# Altium integrated library Linear Technology Power Management Hot Swap Controllers.IntLib: 992 symbols (part 58 of 93)
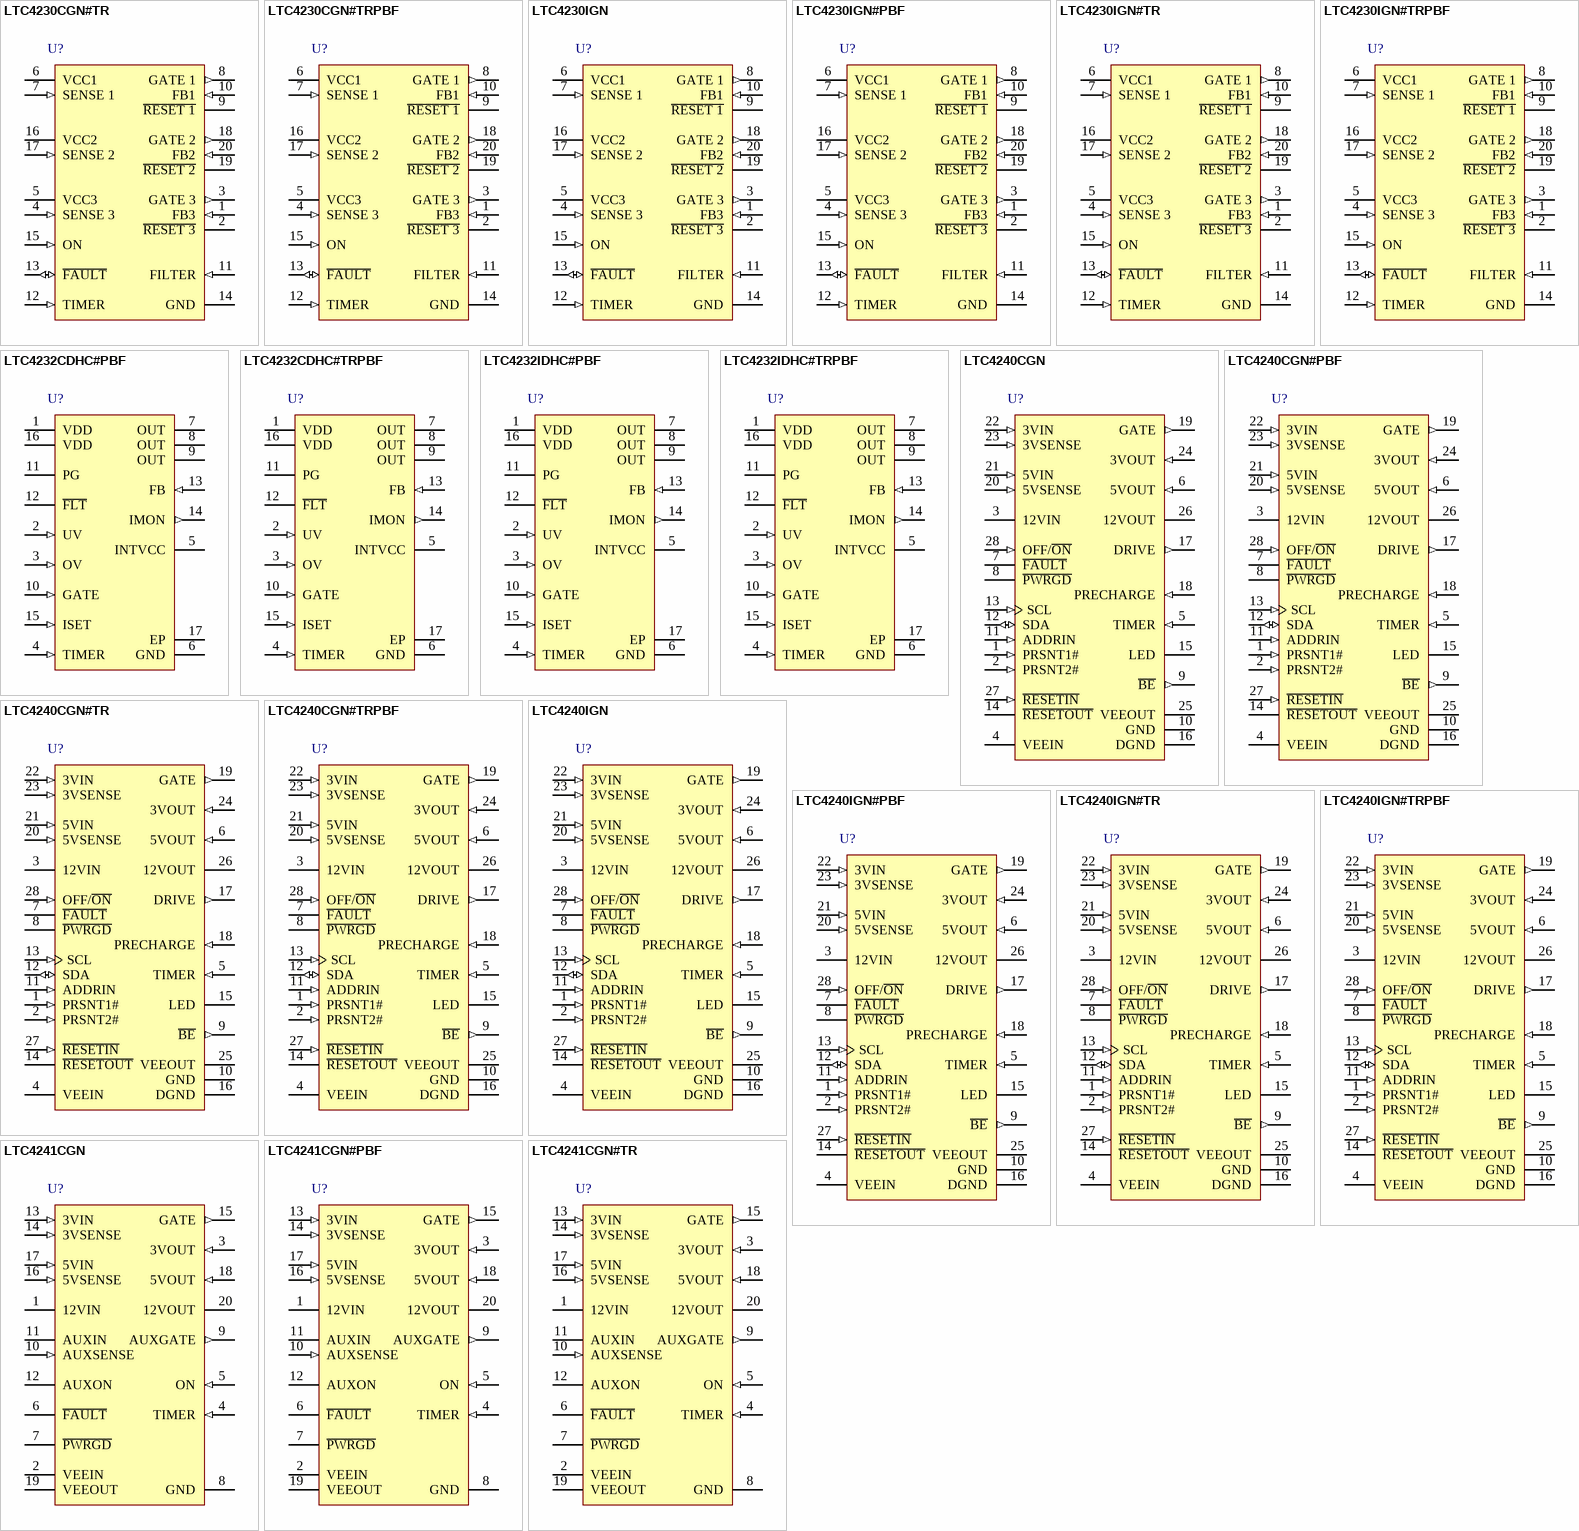
[diagram p94: symbols LTC4230CGN#TR to LTC4241CGN#TR]

## LTC4230IGN#TRPBF
designator U?
Triple Hot Swap Controller with Multifunction Current Control, (1) 2.7 to 16.5 V, (2) 2.375 to 16.5 V, (3) 1.7 to 15.5 V Vin, 20-pin SOP (GN-20), -40 to 85 degC, Pb-Free, Tape and Reel; Manufacturer: Linear Technology; PartNumber: LTC4230IGN#TRPBF; Active Limiting: no; Circuit Breaker Accuracy(%): 20; Circuit Breaker Threshold: 50 mV; Circuit Breakers(#): 3; Extended Temp: C, I; Fast Comparator: yes; In-Rush Current: Active; PackageVersion: Rev. B, 03/2012; PackageReference: GN-20; PackageDescription: 20-Pin Plastic SSOP, Body 8.649 x 3.899 mm, Pitch 0.635 mm; Supplier 1: Digi-Key; Supplier Part Number 1: LTC4230IGN#TRPBF-ND; Fault: yes; Foldback: no; Packing: Tape and Reel; Power Good: no; Reset: yes; RoHS: TRUE; Vin Range: (1) 2.7 to 16.5 V, (2) 2.375 to 16.5 V, (3) 1.7 to 15.5 V; Mounting Technology: Surface Mount; ComponentLink1Description: Manufacturer URL; ComponentLink1URL: http://www.linear.com/; ComponentLink2Description: Datasheet; ComponentLink2URL: http://cds.linear.com/docs/en/datasheet/4230f.pdf; ComponentLink3Description: Package Specification; ComponentLink3URL: http://cds.linear.com/docs/en/packaging/05081641_B_GN20.pdf
footprint LT-GN-20_N (SOP, 20-Leads, Body 8.7x4mm, Pitch 0.635mm, IPC Medium Density)
footprint LT-GN-20_L (SOP, 20-Leads, Body 8.7x4mm, Pitch 0.635mm, IPC High Density)
footprint LT-GN-20_M (SOP, 20-Leads, Body 8.7x4mm, Pitch 0.635mm, IPC Low Density)
pins: 1 FB3 (in) "The FB3 (Feedback) pin is an input to the FBCOMP3 comparator which monitors the VCC3 output supply voltage through an external resistor divider.", 2 ~{RESET 3} (oc) "An open-drain N-channel device whose source connects to GND (Pin 14). This pin pulls low if the voltage at FB3 (Pin 1) falls below the FB3 threshold (1.234V).", 3 GATE 3 (out) "The output signal at this pin is the high side gate drive for Channel 3’s external N-channel MOSFET pass transistor.", 4 SENSE 3 (in) "Circuit Breaker Sense Pin for Channel 3. With a sense resistor placed in the power path between VCC3 and SENSE 3,", 5 VCC3 (power) "Positive Supply Input for Channel 3. VCC3 operates from 1.7V to 15.5V (VCC3 £ VCC1 - 1V) and its supply current, ICC3, is typically 65mA. The master UVLO circuit disables all three GATEn outputs of the LTC4230 until the(See Datasheet)", 6 VCC1 (power) "This is the positive supply input to the LTC4230, the power supply input for Channel 1, and the power supply input for all three internal charge pumps.", 7 SENSE 1 (in) "Circuit Breaker Sense Pin for Channel 1. With a sense resistor placed in the power path between VCC1 and SENSE 1, Channel 1’s electronic circuit breaker trips if the voltage across the sense resistor (VCC1 - VSENSE1(See Datasheet)", 8 GATE 1 (out) "The output signal at this pin is the high side gate drive for Channel 1’s external N-channel FET pass transistor.", 9 ~{RESET 1} (hiz) "An open-drain N-channel device whose source connects to GND (Pin 14).", 10 FB1 (in) "The FB1 (Feedback) pin is an input to the FBCOMP1 comparator which monitors the VCC1 output supply voltage through an external resistor divider.", 11 FILTER (in) "Overcurrent Fault Timing Pin and Overvoltage Fault Set Pin. With a capacitor connected from this pin to ground,", 12 TIMER (in) "A capacitor connected from this pin to GND sets the LTC4230’s system timing. The LTC4230’s initial and second start-up timing cycles and its discharge mode delay time are controlled by this capacitor.", 13 ~{FAULT} (io) "F\A\U\L\T\ is a dual function (an input and an output) internal to the LTC4230. Connected to this pin are an analog comparator (COMP6) and an open-drain N-channel FET.", 14 GND (power) "Device Ground Connection. Connect this pin to the system’s analog ground plane.", 15 ON (in) "An active high signal used to enable or disable LTC4230 operation. As shown in the LTC4230 Block  Diagram, COMP1’s threshold is set at 1.234V and its hysteresis is set at 80mV.", 16 VCC2 (power) "Positive Supply Input for Channel 2. VCC2 operates from 2.375V to 16.5V and its supply current, ICC2, is typically 75mA.", 17 SENSE 2 (in) "Circuit Breaker Sense Pin for Channel 2. With a sense resistor placed in the power path between VCC2 and SENSE 2,", 18 GATE 2 (out) "The output signal at this pin is the high side gate drive for Channel 2’s external N-channel FET pass transistor.", 19 ~{RESET 2} (oc) "An open-drain N-channel device whose source connects to GND (Pin 14). This pin pulls low if the voltage at FB2 (Pin 20) falls below the FB2 threshold (1.234V).", 20 FB2 (in) "The FB2 (Feedback) pin is an input to the FBCOMP2 comparator which monitors the VCC2 output supply voltage through an external resistor divider."

## LTC4232CDHC#PBF
designator U?
5 A Integrated Hot Swap Controller, 2.9 to 15 V Vin, 16-pin SON (DHC-16), 0 to 70 degC, Pb-Free; Manufacturer: Linear Technology; PartNumber: LTC4232CDHC#PBF; Active Limiting: yes; Circuit Breaker Accuracy(%): 10; Circuit Breakers(#): 1; Extended Temp: C, I; In-Rush Current: Ramp; DatasheetVersion: Rev. A; PackageVersion: Jun-10; PackageReference: DHC-16; PackageDescription: 16-Pin Plastic DFN, Body 5 x 3 mm, Pitch 0.5 mm; Supplier 1: Digi-Key; Supplier Part Number 1: LTC4232CDHC#PBF-ND; Supplier 2: Farnell; Supplier Part Number 2: 2322425; Supplier 3: Newark; Supplier Part Number 3: 78T3320; Fault: yes; Foldback: yes; Power Good: yes; RoHS: TRUE; Vin Range: 2.9 to 15 V; Mounting Technology: Surface Mount; Code_JEDEC: MO-229; ComponentLink1Description: Manufacturer URL; ComponentLink1URL: http://www.linear.com/; ComponentLink2Description: Datasheet; ComponentLink2URL: http://cds.linear.com/docs/en/datasheet/4232fa.pdf; ComponentLink3Description: Package Specification; ComponentLink3URL: http://cds.linear.com/docs/en/packaging/DFN_16_05-08-1706.pdf
footprint LT-DHC-16_V (SON, 16-Leads, Body 5x3mm, Pitch 0.5mm, Thermal Pad 4.4X1.65mm)
pins: 1 VDD (power) "Supply Voltage and Current Sense Input. This pin  has an undervoltage lockout threshold of 2.73V.", 2 UV (in) "Undervoltage Comparator Input. Tie high if unused.  Connect this pin to an external resistive divider from VDD.  If the UV pin voltage falls below 1.15V, an undervoltage is  detected and the switch turns off. Pulling this (See Datasheet)", 3 OV (in) "Overvoltage Comparator Input. Connect this pin to an  external resistive divider from VDD. If the voltage at this  pin rises above 1.235V, an overvoltage is detected and  the switch turns off. Tie to GND if unused.", 4 TIMER (in) "Timer Input. Connect a capacitor between this pin  and ground to set a 12ms/uF duration for current limit  before the switch is turned off. If the UV pin is toggled  low while the MOSFET switch is off, the switch will turn  (See Datasheet)", 5 INTVCC (power) "Internal 3.1V Supply Decoupling Output. This pin  must have a 0.1uF or larger bypass capacitor.", 6 GND (power) "Device Ground.", 7 OUT (power) "Output of Internal MOSFET Switch. Connect this pin  directly to the load.", 8 OUT (power) "Output of Internal MOSFET Switch. Connect this pin  directly to the load.", 9 OUT (power) "Output of Internal MOSFET Switch. Connect this pin  directly to the load.", 10 GATE (in) "Gate Drive for Internal N-channel MOSFET. An  internal 24uA current source charges the gate of the  N-channel MOSFET. At start-up the GATE pin ramps up at  a 0.3V/ms rate determined by internal circuitry. During an  (See Datasheet)", 11 PG (oc) "Power Good Indicator. Open-drain output pulls low  when the FB pin drops below 1.21V indicating the power is  bad. If the FB pin rises above 1.23V and the GATE to OUT  voltage exceeds 4.2V, the open-drain pull-down releases  (See Datasheet)", 12 ~{FLT} (oc) "Overcurrent Fault Indicator. Open-drain output pulls  low when an overcurrent fault has occurred and the circuit  breaker trips. For overcurrent auto-retry tie to UV pin (see  the Applications Information section for (See Datasheet)", 13 FB (in) "Foldback and Power Good Input. Connect this pin to  an external resistive divider from OUT. If the voltage falls  below 0.6V, the current limit is reduced using a foldback  profile (see the Typical Performance (See Datasheet)", 14 IMON (out) "Current Monitor Output. The current in the internal  MOSFET switch is divided by 50,000 and sourced from this pin. Placing a 20k resistor from this pin to GND creates a  0V to 2V voltage swing when current ranges from 0A to (See Datasheet)", 15 ISET (in) "Current Limit Adjustment Pin. For a 5.6A current limit  value open this pin. This pin is driven by a 20k resistor in  series with a voltage source. The pin voltage is used to  generatethecurrentlimitthreshold. Theinternal (See Datasheet)", 16 VDD (power) "Supply Voltage and Current Sense Input. This pin  has an undervoltage lockout threshold of 2.73V.", 17 EP "Current Sense Node and MOSFET Drain. The current limit circuit controls the GATE pin to limit the sense  voltage between the VDD and SENSE pins to 42mV (5.6A)  or less depending on the voltage at the FB pin. The exposed  pad (See Datasheet)"

## LTC4232CDHC#TRPBF
designator U?
5 A Integrated Hot Swap Controller, 2.9 to 15 V Vin, 16-pin SON (DHC-16), 0 to 70 degC, Pb-Free, Tape and Reel; Manufacturer: Linear Technology; PartNumber: LTC4232CDHC#TRPBF; Active Limiting: yes; Circuit Breaker Accuracy(%): 10; Circuit Breakers(#): 1; Extended Temp: C, I; In-Rush Current: Ramp; DatasheetVersion: Rev. A; PackageVersion: Jun-10; PackageReference: DHC-16; PackageDescription: 16-Pin Plastic DFN, Body 5 x 3 mm, Pitch 0.5 mm; Supplier 1: Digi-Key; Supplier Part Number 1: LTC4232CDHC#TRPBF-ND; Supplier 2: Newark; Supplier Part Number 2: 78T3321; Fault: yes; Foldback: yes; Packing: Tape and Reel; Power Good: yes; RoHS: TRUE; Vin Range: 2.9 to 15 V; Mounting Technology: Surface Mount; Code_JEDEC: MO-229; ComponentLink1Description: Manufacturer URL; ComponentLink1URL: http://www.linear.com/; ComponentLink2Description: Datasheet; ComponentLink2URL: http://cds.linear.com/docs/en/datasheet/4232fa.pdf; ComponentLink3Description: Package Specification; ComponentLink3URL: http://cds.linear.com/docs/en/packaging/DFN_16_05-08-1706.pdf
footprint LT-DHC-16_V (SON, 16-Leads, Body 5x3mm, Pitch 0.5mm, Thermal Pad 4.4X1.65mm)
pins: 1 VDD (power) "Supply Voltage and Current Sense Input. This pin  has an undervoltage lockout threshold of 2.73V.", 2 UV (in) "Undervoltage Comparator Input. Tie high if unused.  Connect this pin to an external resistive divider from VDD.  If the UV pin voltage falls below 1.15V, an undervoltage is  detected and the switch turns off. Pulling this (See Datasheet)", 3 OV (in) "Overvoltage Comparator Input. Connect this pin to an  external resistive divider from VDD. If the voltage at this  pin rises above 1.235V, an overvoltage is detected and  the switch turns off. Tie to GND if unused.", 4 TIMER (in) "Timer Input. Connect a capacitor between this pin  and ground to set a 12ms/uF duration for current limit  before the switch is turned off. If the UV pin is toggled  low while the MOSFET switch is off, the switch will turn  (See Datasheet)", 5 INTVCC (power) "Internal 3.1V Supply Decoupling Output. This pin  must have a 0.1uF or larger bypass capacitor.", 6 GND (power) "Device Ground.", 7 OUT (power) "Output of Internal MOSFET Switch. Connect this pin  directly to the load.", 8 OUT (power) "Output of Internal MOSFET Switch. Connect this pin  directly to the load.", 9 OUT (power) "Output of Internal MOSFET Switch. Connect this pin  directly to the load.", 10 GATE (in) "Gate Drive for Internal N-channel MOSFET. An  internal 24uA current source charges the gate of the  N-channel MOSFET. At start-up the GATE pin ramps up at  a 0.3V/ms rate determined by internal circuitry. During an  (See Datasheet)", 11 PG (oc) "Power Good Indicator. Open-drain output pulls low  when the FB pin drops below 1.21V indicating the power is  bad. If the FB pin rises above 1.23V and the GATE to OUT  voltage exceeds 4.2V, the open-drain pull-down releases  (See Datasheet)", 12 ~{FLT} (oc) "Overcurrent Fault Indicator. Open-drain output pulls  low when an overcurrent fault has occurred and the circuit  breaker trips. For overcurrent auto-retry tie to UV pin (see  the Applications Information section for (See Datasheet)", 13 FB (in) "Foldback and Power Good Input. Connect this pin to  an external resistive divider from OUT. If the voltage falls  below 0.6V, the current limit is reduced using a foldback  profile (see the Typical Performance (See Datasheet)", 14 IMON (out) "Current Monitor Output. The current in the internal  MOSFET switch is divided by 50,000 and sourced from this pin. Placing a 20k resistor from this pin to GND creates a  0V to 2V voltage swing when current ranges from 0A to (See Datasheet)", 15 ISET (in) "Current Limit Adjustment Pin. For a 5.6A current limit  value open this pin. This pin is driven by a 20k resistor in  series with a voltage source. The pin voltage is used to  generatethecurrentlimitthreshold. Theinternal (See Datasheet)", 16 VDD (power) "Supply Voltage and Current Sense Input. This pin  has an undervoltage lockout threshold of 2.73V.", 17 EP "Current Sense Node and MOSFET Drain. The current limit circuit controls the GATE pin to limit the sense  voltage between the VDD and SENSE pins to 42mV (5.6A)  or less depending on the voltage at the FB pin. The exposed  pad (See Datasheet)"

## LTC4232IDHC#PBF
designator U?
5 A Integrated Hot Swap Controller, 2.9 to 15 V Vin, 16-pin SON (DHC-16), -40 to 85 degC, Pb-Free; Manufacturer: Linear Technology; PartNumber: LTC4232IDHC#PBF; Active Limiting: yes; Circuit Breaker Accuracy(%): 10; Circuit Breakers(#): 1; Extended Temp: C, I; In-Rush Current: Ramp; DatasheetVersion: Rev. A; PackageVersion: Jun-10; PackageReference: DHC-16; PackageDescription: 16-Pin Plastic DFN, Body 5 x 3 mm, Pitch 0.5 mm; Supplier 1: Digi-Key; Supplier Part Number 1: LTC4232IDHC#PBF-ND; Supplier 2: Farnell; Supplier Part Number 2: 2322426; Supplier 3: Newark; Supplier Part Number 3: 78T3322; Fault: yes; Foldback: yes; Power Good: yes; RoHS: TRUE; Vin Range: 2.9 to 15 V; Mounting Technology: Surface Mount; Code_JEDEC: MO-229; ComponentLink1Description: Manufacturer URL; ComponentLink1URL: http://www.linear.com/; ComponentLink2Description: Datasheet; ComponentLink2URL: http://cds.linear.com/docs/en/datasheet/4232fa.pdf; ComponentLink3Description: Package Specification; ComponentLink3URL: http://cds.linear.com/docs/en/packaging/DFN_16_05-08-1706.pdf
footprint LT-DHC-16_V (SON, 16-Leads, Body 5x3mm, Pitch 0.5mm, Thermal Pad 4.4X1.65mm)
pins: 1 VDD (power) "Supply Voltage and Current Sense Input. This pin  has an undervoltage lockout threshold of 2.73V.", 2 UV (in) "Undervoltage Comparator Input. Tie high if unused.  Connect this pin to an external resistive divider from VDD.  If the UV pin voltage falls below 1.15V, an undervoltage is  detected and the switch turns off. Pulling this (See Datasheet)", 3 OV (in) "Overvoltage Comparator Input. Connect this pin to an  external resistive divider from VDD. If the voltage at this  pin rises above 1.235V, an overvoltage is detected and  the switch turns off. Tie to GND if unused.", 4 TIMER (in) "Timer Input. Connect a capacitor between this pin  and ground to set a 12ms/uF duration for current limit  before the switch is turned off. If the UV pin is toggled  low while the MOSFET switch is off, the switch will turn  (See Datasheet)", 5 INTVCC (power) "Internal 3.1V Supply Decoupling Output. This pin  must have a 0.1uF or larger bypass capacitor.", 6 GND (power) "Device Ground.", 7 OUT (power) "Output of Internal MOSFET Switch. Connect this pin  directly to the load.", 8 OUT (power) "Output of Internal MOSFET Switch. Connect this pin  directly to the load.", 9 OUT (power) "Output of Internal MOSFET Switch. Connect this pin  directly to the load.", 10 GATE (in) "Gate Drive for Internal N-channel MOSFET. An  internal 24uA current source charges the gate of the  N-channel MOSFET. At start-up the GATE pin ramps up at  a 0.3V/ms rate determined by internal circuitry. During an  (See Datasheet)", 11 PG (oc) "Power Good Indicator. Open-drain output pulls low  when the FB pin drops below 1.21V indicating the power is  bad. If the FB pin rises above 1.23V and the GATE to OUT  voltage exceeds 4.2V, the open-drain pull-down releases  (See Datasheet)", 12 ~{FLT} (oc) "Overcurrent Fault Indicator. Open-drain output pulls  low when an overcurrent fault has occurred and the circuit  breaker trips. For overcurrent auto-retry tie to UV pin (see  the Applications Information section for (See Datasheet)", 13 FB (in) "Foldback and Power Good Input. Connect this pin to  an external resistive divider from OUT. If the voltage falls  below 0.6V, the current limit is reduced using a foldback  profile (see the Typical Performance (See Datasheet)", 14 IMON (out) "Current Monitor Output. The current in the internal  MOSFET switch is divided by 50,000 and sourced from this pin. Placing a 20k resistor from this pin to GND creates a  0V to 2V voltage swing when current ranges from 0A to (See Datasheet)", 15 ISET (in) "Current Limit Adjustment Pin. For a 5.6A current limit  value open this pin. This pin is driven by a 20k resistor in  series with a voltage source. The pin voltage is used to  generatethecurrentlimitthreshold. Theinternal (See Datasheet)", 16 VDD (power) "Supply Voltage and Current Sense Input. This pin  has an undervoltage lockout threshold of 2.73V.", 17 EP "Current Sense Node and MOSFET Drain. The current limit circuit controls the GATE pin to limit the sense  voltage between the VDD and SENSE pins to 42mV (5.6A)  or less depending on the voltage at the FB pin. The exposed  pad (See Datasheet)"

## LTC4232IDHC#TRPBF
designator U?
5 A Integrated Hot Swap Controller, 2.9 to 15 V Vin, 16-pin SON (DHC-16), -40 to 85 degC, Pb-Free, Tape and Reel; Manufacturer: Linear Technology; PartNumber: LTC4232IDHC#TRPBF; Active Limiting: yes; Circuit Breaker Accuracy(%): 10; Circuit Breakers(#): 1; Extended Temp: C, I; In-Rush Current: Ramp; DatasheetVersion: Rev. A; PackageVersion: Jun-10; PackageReference: DHC-16; PackageDescription: 16-Pin Plastic DFN, Body 5 x 3 mm, Pitch 0.5 mm; Supplier 1: Digi-Key; Supplier Part Number 1: LTC4232IDHC#TRPBF-ND; Supplier 2: Newark; Supplier Part Number 2: 78T3323; Fault: yes; Foldback: yes; Packing: Tape and Reel; Power Good: yes; RoHS: TRUE; Vin Range: 2.9 to 15 V; Mounting Technology: Surface Mount; Code_JEDEC: MO-229; ComponentLink1Description: Manufacturer URL; ComponentLink1URL: http://www.linear.com/; ComponentLink2Description: Datasheet; ComponentLink2URL: http://cds.linear.com/docs/en/datasheet/4232fa.pdf; ComponentLink3Description: Package Specification; ComponentLink3URL: http://cds.linear.com/docs/en/packaging/DFN_16_05-08-1706.pdf
footprint LT-DHC-16_V (SON, 16-Leads, Body 5x3mm, Pitch 0.5mm, Thermal Pad 4.4X1.65mm)
pins: 1 VDD (power) "Supply Voltage and Current Sense Input. This pin  has an undervoltage lockout threshold of 2.73V.", 2 UV (in) "Undervoltage Comparator Input. Tie high if unused.  Connect this pin to an external resistive divider from VDD.  If the UV pin voltage falls below 1.15V, an undervoltage is  detected and the switch turns off. Pulling this (See Datasheet)", 3 OV (in) "Overvoltage Comparator Input. Connect this pin to an  external resistive divider from VDD. If the voltage at this  pin rises above 1.235V, an overvoltage is detected and  the switch turns off. Tie to GND if unused.", 4 TIMER (in) "Timer Input. Connect a capacitor between this pin  and ground to set a 12ms/uF duration for current limit  before the switch is turned off. If the UV pin is toggled  low while the MOSFET switch is off, the switch will turn  (See Datasheet)", 5 INTVCC (power) "Internal 3.1V Supply Decoupling Output. This pin  must have a 0.1uF or larger bypass capacitor.", 6 GND (power) "Device Ground.", 7 OUT (power) "Output of Internal MOSFET Switch. Connect this pin  directly to the load.", 8 OUT (power) "Output of Internal MOSFET Switch. Connect this pin  directly to the load.", 9 OUT (power) "Output of Internal MOSFET Switch. Connect this pin  directly to the load.", 10 GATE (in) "Gate Drive for Internal N-channel MOSFET. An  internal 24uA current source charges the gate of the  N-channel MOSFET. At start-up the GATE pin ramps up at  a 0.3V/ms rate determined by internal circuitry. During an  (See Datasheet)", 11 PG (oc) "Power Good Indicator. Open-drain output pulls low  when the FB pin drops below 1.21V indicating the power is  bad. If the FB pin rises above 1.23V and the GATE to OUT  voltage exceeds 4.2V, the open-drain pull-down releases  (See Datasheet)", 12 ~{FLT} (oc) "Overcurrent Fault Indicator. Open-drain output pulls  low when an overcurrent fault has occurred and the circuit  breaker trips. For overcurrent auto-retry tie to UV pin (see  the Applications Information section for (See Datasheet)", 13 FB (in) "Foldback and Power Good Input. Connect this pin to  an external resistive divider from OUT. If the voltage falls  below 0.6V, the current limit is reduced using a foldback  profile (see the Typical Performance (See Datasheet)", 14 IMON (out) "Current Monitor Output. The current in the internal  MOSFET switch is divided by 50,000 and sourced from this pin. Placing a 20k resistor from this pin to GND creates a  0V to 2V voltage swing when current ranges from 0A to (See Datasheet)", 15 ISET (in) "Current Limit Adjustment Pin. For a 5.6A current limit  value open this pin. This pin is driven by a 20k resistor in  series with a voltage source. The pin voltage is used to  generatethecurrentlimitthreshold. Theinternal (See Datasheet)", 16 VDD (power) "Supply Voltage and Current Sense Input. This pin  has an undervoltage lockout threshold of 2.73V.", 17 EP "Current Sense Node and MOSFET Drain. The current limit circuit controls the GATE pin to limit the sense  voltage between the VDD and SENSE pins to 42mV (5.6A)  or less depending on the voltage at the FB pin. The exposed  pad (See Datasheet)"

## LTC4240CGN
designator U?
Compact PCI Hot Swap Controller with I2C Compatible Interface, 3.3 V, 5 V, +/-12 V Vin, 28-pin SOP (GN-28), 0 to 70 degC; Manufacturer: Linear Technology; PartNumber: LTC4240CGN; Active Limiting: yes; Circuit Breaker Accuracy(%): 9; Circuit Breaker Threshold: 55 mV; Circuit Breakers(#): 4; Extended Temp: C, I; Fast Comparator: no; In-Rush Current: Active; PackageVersion: Rev. B, 03/2012; PackageReference: GN-28; PackageDescription: 28-Pin Plastic SSOP, Body 9.9 x 3.9 mm, Pitch 0.635 mm; Supplier 1: Digi-Key; Supplier Part Number 1: LTC4240CGN-ND; Fault: yes; Foldback: yes; Power Good: yes; Reset: no; RoHS: FALSE; Vin Range: 3.3 V, 5 V, +/-12 V; Mounting Technology: Surface Mount; ComponentLink1Description: Manufacturer URL; ComponentLink1URL: http://www.linear.com/; ComponentLink2Description: Datasheet; ComponentLink2URL: http://cds.linear.com/docs/en/datasheet/4240f.pdf; ComponentLink3Description: Package Specification; ComponentLink3URL: http://cds.linear.com/docs/en/packaging/05081641_B_GN28.pdf
footprint LT-GN-28_N (SOP, 28-Leads, Body 9.98x3.98mm, Pitch 0.635mm, IPC Medium Density)
footprint LT-GN-28_L (SOP, 28-Leads, Body 9.98x3.98mm, Pitch 0.635mm, IPC High Density)
footprint LT-GN-28_M (SOP, 28-Leads, Body 9.98x3.98mm, Pitch 0.635mm, IPC Low Density)
pins: 1 PRSNT1# (in) "PCI Present Detect Input 1. PRSNT1# and PRSNT2# are readable over the I2C Bus. PRSNT1# and PRSNT2# indicate the maximum power used by the card. Do not float.", 2 PRSNT2# (in) "PCI Present Detect Input 2. Do not float.", 3 12VIN (power) "12V Supply Input. A 0.5ohm switch is internally connected between 12VIN and 12VOUT with foldback current limit. An undervoltage lockout circuit prevents the switches from turning on while the 12VIN pin is below 8V. 12VIN (See Datasheet)", 4 VEEIN (power) "-12V Supply Input. A 1ohm internal switch is connected between VEEIN and VEEOUT with foldback current limit. An undervoltage lockout circuit prevents the switches from turning on while VEEIN is above - 9V. See Connecting (See Datasheet)", 5 TIMER (in) "Current Fault Inhibit Timing Input. Connect a capacitor from TIMER to GND. With the LTC4240 turned off (OFF/O\N\ = HIGH), the TIMER pin is internally held at GND. When the device is turned on, an 11.5uA pull-up current (See Datasheet)", 6 5VOUT (in) "5V Output Sense. The P\W\R\G\D\ pin will not pull low until the 5VOUT pin voltage exceeds 4.65V. When the power switches are turned off, a 50ohm resistor pulls 5VOUT to ground.", 7 ~{FAULT} (oc) "Open-Drain Fault Output . F\A\U\L\T\ is pulled low when a current limit fault is detected. Current limit faults are ignored until the voltage at the TIMER pin is above 5.5V. Once the TIMER cycle is complete, F\A\U\L\T\ pulls (See Datasheet)", 8 ~{PWRGD} (oc) "Open-Drain Power Good Output. Connect the CPCI HEALTHY# signal to the P\W\R\G\D\ pin. P\W\R\G\D\ remains low while V12VOUT>= 11.1V, V3VOUT>=2.9V, V5VOUT >=4.65V and VEEOUT=<-10.5V. When any of the supplies drops below its (See Datasheet)", 9 ~{BE} (out) "QuickSwitch Bus Enable Output. The B\E\ output remains high until power is good on all supplies. This serves to isolate the I/O data lines during live insertion. This is a CMOS output powered by 5VIN.", 10 GND (power) "Analog Ground. Connect to analog ground plane.", 11 ADDRIN (in) "I2C Address Programming Input. The I2C address is programmed by connecting the ADDRIN pin to a resistor divider between the 5VIN pin and GND. See Table 1 for 1% resistor values and corresponding addresses. Resistors must be (See Datasheet)", 12 SDA (io) "I2C Data Input and Output. Note that TTL levels are used. Connect this pin to ground if I2C is not used.", 13 SCL (in) "I2C Clock Input, 100kHz Maximum. Note that TTL levels are used. Do not float. Connect this pin to ground if I2C is not used.", 14 ~{RESETOUT} (oc) "Open-Drain Reset Output. Connect the CPCI LOCAL_PCI_RST# signal to the R\E\S\E\T\O\U\T\ pin. R\E\S\E\T\O\U\T\ is the logical combination of P\W\R\G\D\, and I2C R\E\S\E\T\O\U\T\ latch output.", 15 LED (oc) "CPCI Status LED. Pulls low to light LED when R\E\S\E\T\O\U\T\ is low or when the I2C LED latch is set.", 16 DGND (power) "Digital Ground. Connect to ground plane.", 17 DRIVE (out) "External transistor’s base drive output for bus precharge. Connects to the base of an external NPN emitter-follower which in turn biases the PRECHARGE node. An external 1k resistor between the transistor’s base and 3(See Datasheet)", 18 PRECHARGE (in) "Precharge Monitor Input. An internal error amplifier servos the DRIVE pin voltage to keep the precharge node at 1V. Becomes valid when long 5V and 3.3V power pins make contact .Tie pins 17 and 18 together if precharge (See Datasheet)", 19 GATE (out) "High Side Gate Drive for the External 3.3V and 5V N-Channel Power Transistors. An external series RC network is required for the current limit loop compensation and to set the maximum ramp-up rate. During power-up, the slope (See Datasheet)", 20 5VSENSE (in) "5V Current Limit Sense. A sense resistor placed between 5VIN and 5VSENSE determines the current limit for this supply. A foldback current feature makes the current limit decrease as the voltage at the 5VOUT pin approaches 0V.(See Datasheet)", 21 5VIN (in) "5V Supply Sense Input. An undervoltage lockout circuit prevents the switches from turning on when the voltage at the 5VIN pin is less than 4.3V. At least one long pin must be connected to 5VIN to ensure precharge output. See (See Datasheet)", 22 3VIN (in) "3.3V Supply Sense Input. An undervoltage lockout circuit prevents the switches from turning on when the voltage at the 3VIN pin is less than 2.45V. If no 3.3V input supply is available, connect two series diodes between 5VIN (See Datasheet)", 23 3VSENSE (in) "3.3V Current Limit Sense. A sense resistor placed between 3VIN and 3VSENSE determines the current limit for this supply. A foldback feature makes the current limit decrease as the voltage at the 3VOUT pin approaches 0V. To (See Datasheet)", 24 3VOUT (in) "3.3V Output Sense. The P\W\R\G\D\ pin cannot pull low until the 3VOUT pin voltage exceeds 2.9V. If no 3.3V input supply is available, tie the 3VOUT pin to the 5VOUT pin. When the power switches are turned off, a 150ohm (See Datasheet)", 25 VEEOUT (power) "-12V Supply Output. An internal 1ohm switch is connected between VEEIN and VEEOUT. VEEOUT must exceed -10.5V before the P\W\R\G\D\ pin pulls low. When the power switches are turned off, a 650W resistor pulls VEEOUT to ground.", 26 12VOUT (power) "12V Supply Output. A 0.5W switch isconnected between 12VIN and 12VOUT. 12VOUT must exceed 11.1V before the P\W\R\G\D\ pin can pull low. When the power switches are turned off, a 430ohm resistor pulls 12VOUT to ground.", 27 ~{RESETIN} (in) "PCI Reset Input. Connect the CPCI PCI_RST# signal to the R\E\S\E\T\I\N\ pin. Pulling R\E\S\E\T\I\N\ low will cause R\E\S\E\T\O\U\T\ to pull low. Note that the I2C R\E\S\E\T\I\N\ latch output can also set R\E\S\E\T\O\U\T\. Do (See Datasheet)", 28 OFF/~{ON} (in) "OFF/O\N\ Input. Connect the CPCI BD_SEL# signal to the OFF/O\N\ pin. When the OFF/O\N\ pin is pulled low, the GATE pin is pulled high by a 65uA current source and the internal 12V and -12V switches are turned on. When the (See Datasheet)"

## LTC4240CGN#PBF
designator U?
Compact PCI Hot Swap Controller with I2C Compatible Interface, 3.3 V, 5 V, +/-12 V Vin, 28-pin SOP (GN-28), 0 to 70 degC, Pb-Free; Manufacturer: Linear Technology; PartNumber: LTC4240CGN#PBF; Active Limiting: yes; Circuit Breaker Accuracy(%): 9; Circuit Breaker Threshold: 55 mV; Circuit Breakers(#): 4; Extended Temp: C, I; Fast Comparator: no; In-Rush Current: Active; PackageVersion: Rev. B, 03/2012; PackageReference: GN-28; PackageDescription: 28-Pin Plastic SSOP, Body 9.9 x 3.9 mm, Pitch 0.635 mm; Supplier 1: Digi-Key; Supplier Part Number 1: LTC4240CGN#PBF-ND; Fault: yes; Foldback: yes; Power Good: yes; Reset: no; RoHS: TRUE; Vin Range: 3.3 V, 5 V, +/-12 V; Mounting Technology: Surface Mount; ComponentLink1Description: Manufacturer URL; ComponentLink1URL: http://www.linear.com/; ComponentLink2Description: Datasheet; ComponentLink2URL: http://cds.linear.com/docs/en/datasheet/4240f.pdf; ComponentLink3Description: Package Specification; ComponentLink3URL: http://cds.linear.com/docs/en/packaging/05081641_B_GN28.pdf
footprint LT-GN-28_N (SOP, 28-Leads, Body 9.98x3.98mm, Pitch 0.635mm, IPC Medium Density)
footprint LT-GN-28_L (SOP, 28-Leads, Body 9.98x3.98mm, Pitch 0.635mm, IPC High Density)
footprint LT-GN-28_M (SOP, 28-Leads, Body 9.98x3.98mm, Pitch 0.635mm, IPC Low Density)
pins: 1 PRSNT1# (in) "PCI Present Detect Input 1. PRSNT1# and PRSNT2# are readable over the I2C Bus. PRSNT1# and PRSNT2# indicate the maximum power used by the card. Do not float.", 2 PRSNT2# (in) "PCI Present Detect Input 2. Do not float.", 3 12VIN (power) "12V Supply Input. A 0.5ohm switch is internally connected between 12VIN and 12VOUT with foldback current limit. An undervoltage lockout circuit prevents the switches from turning on while the 12VIN pin is below 8V. 12VIN (See Datasheet)", 4 VEEIN (power) "-12V Supply Input. A 1ohm internal switch is connected between VEEIN and VEEOUT with foldback current limit. An undervoltage lockout circuit prevents the switches from turning on while VEEIN is above - 9V. See Connecting (See Datasheet)", 5 TIMER (in) "Current Fault Inhibit Timing Input. Connect a capacitor from TIMER to GND. With the LTC4240 turned off (OFF/O\N\ = HIGH), the TIMER pin is internally held at GND. When the device is turned on, an 11.5uA pull-up current (See Datasheet)", 6 5VOUT (in) "5V Output Sense. The P\W\R\G\D\ pin will not pull low until the 5VOUT pin voltage exceeds 4.65V. When the power switches are turned off, a 50ohm resistor pulls 5VOUT to ground.", 7 ~{FAULT} (oc) "Open-Drain Fault Output . F\A\U\L\T\ is pulled low when a current limit fault is detected. Current limit faults are ignored until the voltage at the TIMER pin is above 5.5V. Once the TIMER cycle is complete, F\A\U\L\T\ pulls (See Datasheet)", 8 ~{PWRGD} (oc) "Open-Drain Power Good Output. Connect the CPCI HEALTHY# signal to the P\W\R\G\D\ pin. P\W\R\G\D\ remains low while V12VOUT>= 11.1V, V3VOUT>=2.9V, V5VOUT >=4.65V and VEEOUT=<-10.5V. When any of the supplies drops below its (See Datasheet)", 9 ~{BE} (out) "QuickSwitch Bus Enable Output. The B\E\ output remains high until power is good on all supplies. This serves to isolate the I/O data lines during live insertion. This is a CMOS output powered by 5VIN.", 10 GND (power) "Analog Ground. Connect to analog ground plane.", 11 ADDRIN (in) "I2C Address Programming Input. The I2C address is programmed by connecting the ADDRIN pin to a resistor divider between the 5VIN pin and GND. See Table 1 for 1% resistor values and corresponding addresses. Resistors must be (See Datasheet)", 12 SDA (io) "I2C Data Input and Output. Note that TTL levels are used. Connect this pin to ground if I2C is not used.", 13 SCL (in) "I2C Clock Input, 100kHz Maximum. Note that TTL levels are used. Do not float. Connect this pin to ground if I2C is not used.", 14 ~{RESETOUT} (oc) "Open-Drain Reset Output. Connect the CPCI LOCAL_PCI_RST# signal to the R\E\S\E\T\O\U\T\ pin. R\E\S\E\T\O\U\T\ is the logical combination of P\W\R\G\D\, and I2C R\E\S\E\T\O\U\T\ latch output.", 15 LED (oc) "CPCI Status LED. Pulls low to light LED when R\E\S\E\T\O\U\T\ is low or when the I2C LED latch is set.", 16 DGND (power) "Digital Ground. Connect to ground plane.", 17 DRIVE (out) "External transistor’s base drive output for bus precharge. Connects to the base of an external NPN emitter-follower which in turn biases the PRECHARGE node. An external 1k resistor between the transistor’s base and 3(See Datasheet)", 18 PRECHARGE (in) "Precharge Monitor Input. An internal error amplifier servos the DRIVE pin voltage to keep the precharge node at 1V. Becomes valid when long 5V and 3.3V power pins make contact .Tie pins 17 and 18 together if precharge (See Datasheet)", 19 GATE (out) "High Side Gate Drive for the External 3.3V and 5V N-Channel Power Transistors. An external series RC network is required for the current limit loop compensation and to set the maximum ramp-up rate. During power-up, the slope (See Datasheet)", 20 5VSENSE (in) "5V Current Limit Sense. A sense resistor placed between 5VIN and 5VSENSE determines the current limit for this supply. A foldback current feature makes the current limit decrease as the voltage at the 5VOUT pin approaches 0V.(See Datasheet)", 21 5VIN (in) "5V Supply Sense Input. An undervoltage lockout circuit prevents the switches from turning on when the voltage at the 5VIN pin is less than 4.3V. At least one long pin must be connected to 5VIN to ensure precharge output. See (See Datasheet)", 22 3VIN (in) "3.3V Supply Sense Input. An undervoltage lockout circuit prevents the switches from turning on when the voltage at the 3VIN pin is less than 2.45V. If no 3.3V input supply is available, connect two series diodes between 5VIN (See Datasheet)", 23 3VSENSE (in) "3.3V Current Limit Sense. A sense resistor placed between 3VIN and 3VSENSE determines the current limit for this supply. A foldback feature makes the current limit decrease as the voltage at the 3VOUT pin approaches 0V. To (See Datasheet)", 24 3VOUT (in) "3.3V Output Sense. The P\W\R\G\D\ pin cannot pull low until the 3VOUT pin voltage exceeds 2.9V. If no 3.3V input supply is available, tie the 3VOUT pin to the 5VOUT pin. When the power switches are turned off, a 150ohm (See Datasheet)", 25 VEEOUT (power) "-12V Supply Output. An internal 1ohm switch is connected between VEEIN and VEEOUT. VEEOUT must exceed -10.5V before the P\W\R\G\D\ pin pulls low. When the power switches are turned off, a 650W resistor pulls VEEOUT to ground.", 26 12VOUT (power) "12V Supply Output. A 0.5W switch isconnected between 12VIN and 12VOUT. 12VOUT must exceed 11.1V before the P\W\R\G\D\ pin can pull low. When the power switches are turned off, a 430ohm resistor pulls 12VOUT to ground.", 27 ~{RESETIN} (in) "PCI Reset Input. Connect the CPCI PCI_RST# signal to the R\E\S\E\T\I\N\ pin. Pulling R\E\S\E\T\I\N\ low will cause R\E\S\E\T\O\U\T\ to pull low. Note that the I2C R\E\S\E\T\I\N\ latch output can also set R\E\S\E\T\O\U\T\. Do (See Datasheet)", 28 OFF/~{ON} (in) "OFF/O\N\ Input. Connect the CPCI BD_SEL# signal to the OFF/O\N\ pin. When the OFF/O\N\ pin is pulled low, the GATE pin is pulled high by a 65uA current source and the internal 12V and -12V switches are turned on. When the (See Datasheet)"

## LTC4240CGN#TR
designator U?
Compact PCI Hot Swap Controller with I2C Compatible Interface, 3.3 V, 5 V, +/-12 V Vin, 28-pin SOP (GN-28), 0 to 70 degC, Tape and Reel; Manufacturer: Linear Technology; PartNumber: LTC4240CGN#TR; Active Limiting: yes; Circuit Breaker Accuracy(%): 9; Circuit Breaker Threshold: 55 mV; Circuit Breakers(#): 4; Extended Temp: C, I; Fast Comparator: no; In-Rush Current: Active; PackageVersion: Rev. B, 03/2012; PackageReference: GN-28; PackageDescription: 28-Pin Plastic SSOP, Body 9.9 x 3.9 mm, Pitch 0.635 mm; Supplier 1: Digi-Key; Supplier Part Number 1: LTC4240CGN#TR-ND; Fault: yes; Foldback: yes; Packing: Tape and Reel; Power Good: yes; Reset: no; RoHS: FALSE; Vin Range: 3.3 V, 5 V, +/-12 V; Mounting Technology: Surface Mount; ComponentLink1Description: Manufacturer URL; ComponentLink1URL: http://www.linear.com/; ComponentLink2Description: Datasheet; ComponentLink2URL: http://cds.linear.com/docs/en/datasheet/4240f.pdf; ComponentLink3Description: Package Specification; ComponentLink3URL: http://cds.linear.com/docs/en/packaging/05081641_B_GN28.pdf
footprint LT-GN-28_N (SOP, 28-Leads, Body 9.98x3.98mm, Pitch 0.635mm, IPC Medium Density)
footprint LT-GN-28_L (SOP, 28-Leads, Body 9.98x3.98mm, Pitch 0.635mm, IPC High Density)
footprint LT-GN-28_M (SOP, 28-Leads, Body 9.98x3.98mm, Pitch 0.635mm, IPC Low Density)
pins: 1 PRSNT1# (in) "PCI Present Detect Input 1. PRSNT1# and PRSNT2# are readable over the I2C Bus. PRSNT1# and PRSNT2# indicate the maximum power used by the card. Do not float.", 2 PRSNT2# (in) "PCI Present Detect Input 2. Do not float.", 3 12VIN (power) "12V Supply Input. A 0.5ohm switch is internally connected between 12VIN and 12VOUT with foldback current limit. An undervoltage lockout circuit prevents the switches from turning on while the 12VIN pin is below 8V. 12VIN (See Datasheet)", 4 VEEIN (power) "-12V Supply Input. A 1ohm internal switch is connected between VEEIN and VEEOUT with foldback current limit. An undervoltage lockout circuit prevents the switches from turning on while VEEIN is above - 9V. See Connecting (See Datasheet)", 5 TIMER (in) "Current Fault Inhibit Timing Input. Connect a capacitor from TIMER to GND. With the LTC4240 turned off (OFF/O\N\ = HIGH), the TIMER pin is internally held at GND. When the device is turned on, an 11.5uA pull-up current (See Datasheet)", 6 5VOUT (in) "5V Output Sense. The P\W\R\G\D\ pin will not pull low until the 5VOUT pin voltage exceeds 4.65V. When the power switches are turned off, a 50ohm resistor pulls 5VOUT to ground.", 7 ~{FAULT} (oc) "Open-Drain Fault Output . F\A\U\L\T\ is pulled low when a current limit fault is detected. Current limit faults are ignored until the voltage at the TIMER pin is above 5.5V. Once the TIMER cycle is complete, F\A\U\L\T\ pulls (See Datasheet)", 8 ~{PWRGD} (oc) "Open-Drain Power Good Output. Connect the CPCI HEALTHY# signal to the P\W\R\G\D\ pin. P\W\R\G\D\ remains low while V12VOUT>= 11.1V, V3VOUT>=2.9V, V5VOUT >=4.65V and VEEOUT=<-10.5V. When any of the supplies drops below its (See Datasheet)", 9 ~{BE} (out) "QuickSwitch Bus Enable Output. The B\E\ output remains high until power is good on all supplies. This serves to isolate the I/O data lines during live insertion. This is a CMOS output powered by 5VIN.", 10 GND (power) "Analog Ground. Connect to analog ground plane.", 11 ADDRIN (in) "I2C Address Programming Input. The I2C address is programmed by connecting the ADDRIN pin to a resistor divider between the 5VIN pin and GND. See Table 1 for 1% resistor values and corresponding addresses. Resistors must be (See Datasheet)", 12 SDA (io) "I2C Data Input and Output. Note that TTL levels are used. Connect this pin to ground if I2C is not used.", 13 SCL (in) "I2C Clock Input, 100kHz Maximum. Note that TTL levels are used. Do not float. Connect this pin to ground if I2C is not used.", 14 ~{RESETOUT} (oc) "Open-Drain Reset Output. Connect the CPCI LOCAL_PCI_RST# signal to the R\E\S\E\T\O\U\T\ pin. R\E\S\E\T\O\U\T\ is the logical combination of P\W\R\G\D\, and I2C R\E\S\E\T\O\U\T\ latch output.", 15 LED (oc) "CPCI Status LED. Pulls low to light LED when R\E\S\E\T\O\U\T\ is low or when the I2C LED latch is set.", 16 DGND (power) "Digital Ground. Connect to ground plane.", 17 DRIVE (out) "External transistor’s base drive output for bus precharge. Connects to the base of an external NPN emitter-follower which in turn biases the PRECHARGE node. An external 1k resistor between the transistor’s base and 3(See Datasheet)", 18 PRECHARGE (in) "Precharge Monitor Input. An internal error amplifier servos the DRIVE pin voltage to keep the precharge node at 1V. Becomes valid when long 5V and 3.3V power pins make contact .Tie pins 17 and 18 together if precharge (See Datasheet)", 19 GATE (out) "High Side Gate Drive for the External 3.3V and 5V N-Channel Power Transistors. An external series RC network is required for the current limit loop compensation and to set the maximum ramp-up rate. During power-up, the slope (See Datasheet)", 20 5VSENSE (in) "5V Current Limit Sense. A sense resistor placed between 5VIN and 5VSENSE determines the current limit for this supply. A foldback current feature makes the current limit decrease as the voltage at the 5VOUT pin approaches 0V.(See Datasheet)", 21 5VIN (in) "5V Supply Sense Input. An undervoltage lockout circuit prevents the switches from turning on when the voltage at the 5VIN pin is less than 4.3V. At least one long pin must be connected to 5VIN to ensure precharge output. See (See Datasheet)", 22 3VIN (in) "3.3V Supply Sense Input. An undervoltage lockout circuit prevents the switches from turning on when the voltage at the 3VIN pin is less than 2.45V. If no 3.3V input supply is available, connect two series diodes between 5VIN (See Datasheet)", 23 3VSENSE (in) "3.3V Current Limit Sense. A sense resistor placed between 3VIN and 3VSENSE determines the current limit for this supply. A foldback feature makes the current limit decrease as the voltage at the 3VOUT pin approaches 0V. To (See Datasheet)", 24 3VOUT (in) "3.3V Output Sense. The P\W\R\G\D\ pin cannot pull low until the 3VOUT pin voltage exceeds 2.9V. If no 3.3V input supply is available, tie the 3VOUT pin to the 5VOUT pin. When the power switches are turned off, a 150ohm (See Datasheet)", 25 VEEOUT (power) "-12V Supply Output. An internal 1ohm switch is connected between VEEIN and VEEOUT. VEEOUT must exceed -10.5V before the P\W\R\G\D\ pin pulls low. When the power switches are turned off, a 650W resistor pulls VEEOUT to ground.", 26 12VOUT (power) "12V Supply Output. A 0.5W switch isconnected between 12VIN and 12VOUT. 12VOUT must exceed 11.1V before the P\W\R\G\D\ pin can pull low. When the power switches are turned off, a 430ohm resistor pulls 12VOUT to ground.", 27 ~{RESETIN} (in) "PCI Reset Input. Connect the CPCI PCI_RST# signal to the R\E\S\E\T\I\N\ pin. Pulling R\E\S\E\T\I\N\ low will cause R\E\S\E\T\O\U\T\ to pull low. Note that the I2C R\E\S\E\T\I\N\ latch output can also set R\E\S\E\T\O\U\T\. Do (See Datasheet)", 28 OFF/~{ON} (in) "OFF/O\N\ Input. Connect the CPCI BD_SEL# signal to the OFF/O\N\ pin. When the OFF/O\N\ pin is pulled low, the GATE pin is pulled high by a 65uA current source and the internal 12V and -12V switches are turned on. When the (See Datasheet)"